# Altium schematic symbol library JMK063BJ474KP-F.SchLib: 1 symbol
Pins are listed as number, name and electrical type; pins without a type are passive.

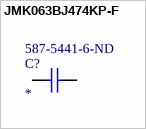
[diagram p0: symbol JMK063BJ474KP-F]

## JMK063BJ474KP-F
designator C?  Supplier Part Number 1: 587-5441-6-ND
Manufacturer: Taiyo Yuden; Manufacturer Part Number: JMK063BJ474KP-F; Supplier 1: Digi-Key; Stock 1: 14724; Pricing 1: 1=0.26, 10=0.175, 100=0.0994, 500=0.0701, 1000=0.0614, 2500=0.0585, 5000=0.0541 (USD)
footprint CAPC0603X03N (Chip Capacitor, 2-Leads, Body 0.60x0.30mm, IPC Medium Density)
pins: 1, 2